# Altium footprint library CUI_PJ-037AH-SMT-TR.PcbLib: 1 footprints
Each footprint in its own frame and in the unit in brackets; x right, y up, seen from the top. Pads: shape width x height; smd on the part's side, far side on the other; paste and mask are expansions set on the pad; w line width, h text height; cw(c..) or ccw(c..) is an arc to the next point about the centre after c.
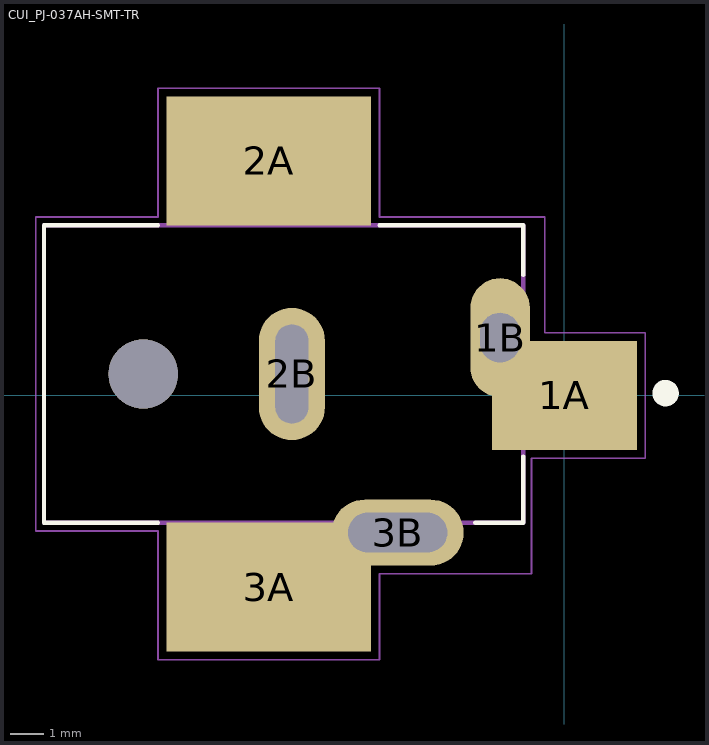
[diagram p0: the footprint, top view; thin cyan lines are the x and y axes]

## CUI_PJ-037AH-SMT-TR [mm]
pads (7):
  rect 4.4x3.3 smd: 1A(0,0)
  oval 1.8x3.6 hole 1.2 slot 1.5 at 90 deg: 1B(-1.95,1.75)
  rect 6.2x3.9 smd: 2A(-8.95,7.1) 3A(-8.95,-5.8)
  oval 2x4 hole 1 slot 3 at 90 deg: 2B(-8.25,0.65)
  oval 4x2 hole 1.2 slot 3 at 0 deg: 3B(-5.05,-4.15)
  round 2.1 hole 2.1 unplated: ""(-12.75,0.65)
Top Overlay:
  circle w0.4: c3.06,0.07 r0.2
  lines w0.127: -12.3,-3.85 -15.75,-3.85 -15.75,5.15 -12.3,5.15 ; -5.6,5.15 -1.25,5.15 -1.25,3.65 ; -2.7,-3.85 -1.25,-3.85 -1.25,-1.85
Mechanical 13:
  lines w0.127: -15.75,-3.85 -15.75,5.15 -1.25,5.15 -1.25,-3.85 -15.75,-3.85
Mechanical 15:
  lines w0.05: -16,-4.1 -16,5.4 -12.3,5.4 -12.3,9.3 -5.6,9.3 -5.6,5.4 -0.6,5.4 -0.6,1.9 2.45,1.9 2.45,-1.9 -1,-1.9 -1,-5.4 -5.6,-5.4 -5.6,-8 -12.3,-8 -12.3,-4.1 -16,-4.1